# Altium schematic symbol library ic_mcu.SchLib: 6 symbols
Pins are listed as number, name and electrical type; pins without a type are passive.

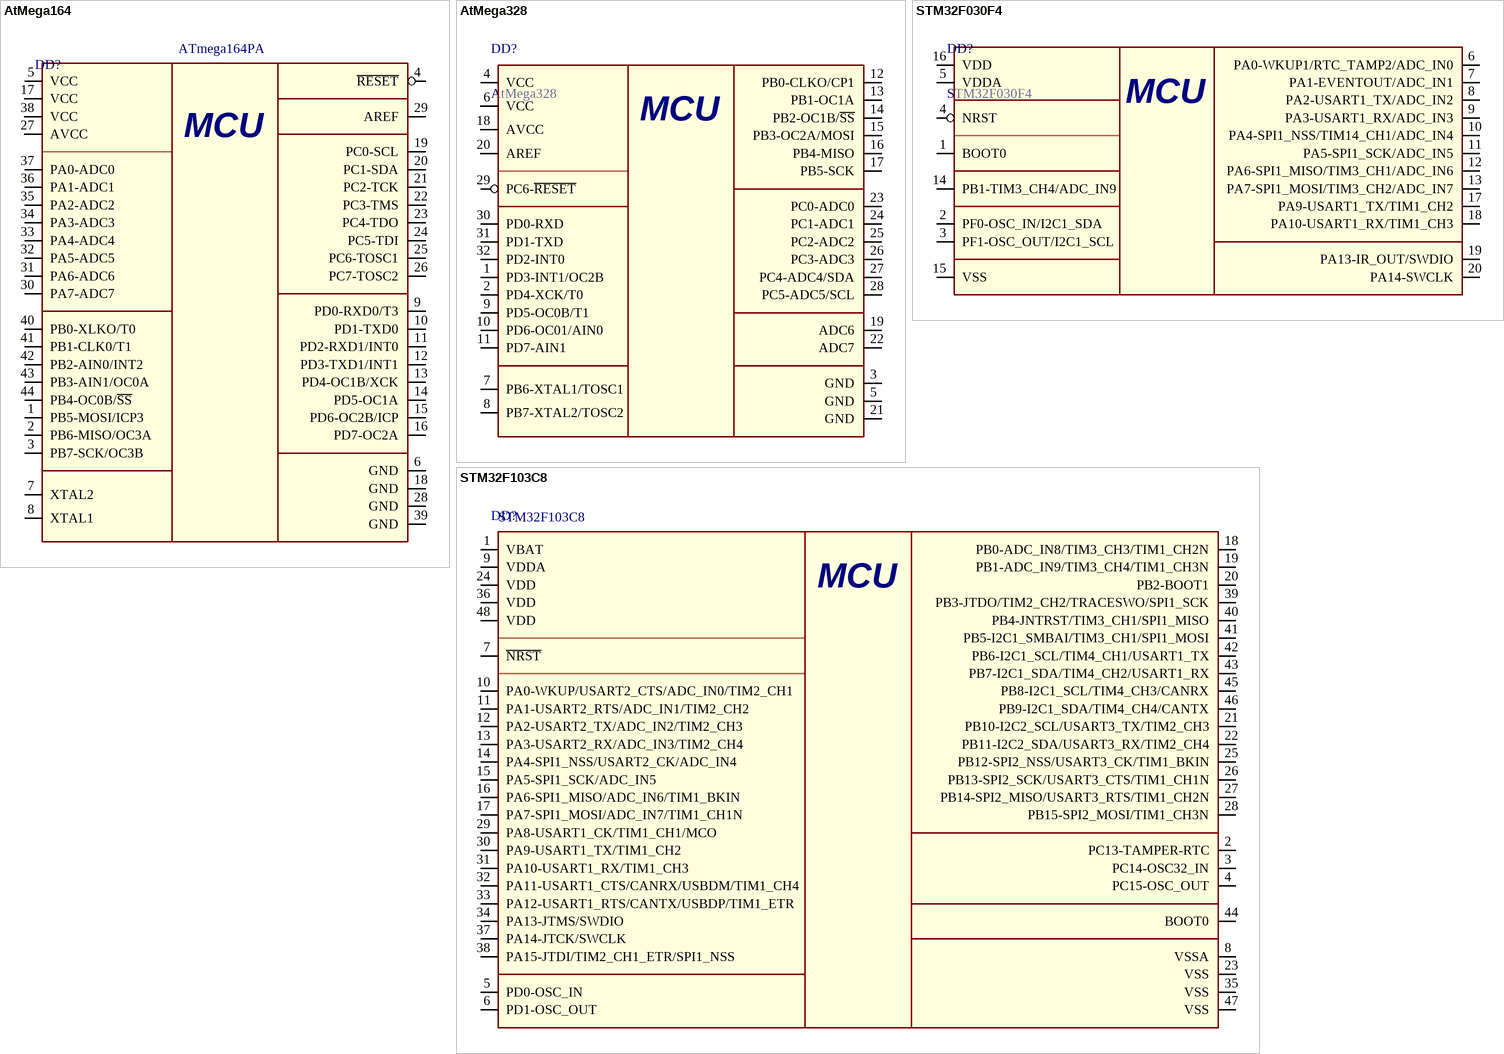
[diagram p0: symbols AtMega164 to STM32F103C8]

## AtMega164
designator DD?, comment ATmega164PA
AVR 8-bit 20MHz 16KB; Manufacturer: Microchip; ManufacturerPartNumber: ATmega164PA-AU; Power/Voltage: 5V; Type: ic-mcu; RevisionDate: 20-11-2018; Package: TQFP-44; Name: ATmega164PA
footprint TQFP-44/100100-0.8 (TQFP, 44-Leads, Body 10,50x10,50mm, Pitch 0,80mm, IPC Medium Density)
pins: 1 PB5-MOSI/ICP3, 2 PB6-MISO/OC3A, 3 PB7-SCK/OC3B, 4 ~{RESET}, 5 VCC, 6 GND, 7 XTAL2, 8 XTAL1, 9 PD0-RXD0/T3, 10 PD1-TXD0, 11 PD2-RXD1/INT0, 12 PD3-TXD1/INT1, 13 PD4-OC1B/XCK, 14 PD5-OC1A, 15 PD6-OC2B/ICP, 16 PD7-OC2A, 17 VCC, 18 GND, 19 PC0-SCL, 20 PC1-SDA, 21 PC2-TCK, 22 PC3-TMS, 23 PC4-TDO, 24 PC5-TDI, 25 PC6-TOSC1, 26 PC7-TOSC2, 27 AVCC, 28 GND, 29 AREF, 30 PA7-ADC7, 31 PA6-ADC6, 32 PA5-ADC5, 33 PA4-ADC4, 34 PA3-ADC3, 35 PA2-ADC2, 36 PA1-ADC1, 37 PA0-ADC0, 38 VCC, 39 GND, 40 PB0-XLKO/T0, 41 PB1-CLK0/T1, 42 PB2-AIN0/INT2, 43 PB3-AIN1/OC0A, 44 PB4-OC0B/~{SS}
text: MCU

## AtMega328
designator DD?
AVR 8-bit 16MHz 32KB; ManufacturerPartNumber: ATMEGA328P-AU; Manufacturer: Microchip; Power/Voltage: 5V; Type: ic-mcu; RevisionDate: 20-11-2018; Package: TQFP-32; Name: AtMega328
footprint TQFP-32/7070-0.8 (TQFP, 32-Leads, Body 7,00x7,00mm, Pitch 0,80mm, IPC Medium Density)
pins: 1 PD3-INT1/OC2B, 2 PD4-XCK/T0, 3 GND, 4 VCC, 5 GND, 6 VCC, 7 PB6-XTAL1/TOSC1, 8 PB7-XTAL2/TOSC2, 9 PD5-OC0B/T1, 10 PD6-OC01/AIN0, 11 PD7-AIN1, 12 PB0-CLKO/CP1, 13 PB1-OC1A, 14 PB2-OC1B/~{SS}, 15 PB3-OC2A/MOSI, 16 PB4-MISO, 17 PB5-SCK, 18 AVCC, 19 ADC6, 20 AREF, 21 GND, 22 ADC7, 23 PC0-ADC0, 24 PC1-ADC1, 25 PC2-ADC2, 26 PC3-ADC3, 27 PC4-ADC4/SDA, 28 PC5-ADC5/SCL, 29 PC6-~{RESET}, 30 PD0-RXD, 31 PD1-TXD, 32 PD2-INT0
text: MCU

## STM32F030F4
designator DD?
Cortex-M0 48MHz 32KB; Manufacturer: STMicroelectronics; ManufacturerPartNumber: STM32F030F4P6; Power/Voltage: 3V; Type: ic-mcu; RevisionDate: 20-11-2018; Package: TSSOP-20; Name: STM32F030F4
footprint SSOP-20 (SOP, 20-Leads, Body 7,20x5,30mm, Pitch 0,65mm, IPC Medium Density)
pins: 1 BOOT0, 2 PF0-OSC_IN/I2C1_SDA, 3 PF1-OSC_OUT/I2C1_SCL, 4 NRST, 5 VDDA, 6 PA0-WKUP1/RTC_TAMP2/ADC_IN0, 7 PA1-EVENTOUT/ADC_IN1, 8 PA2-USART1_TX/ADC_IN2, 9 PA3-USART1_RX/ADC_IN3, 10 PA4-SPI1_NSS/TIM14_CH1/ADC_IN4, 11 PA5-SPI1_SCK/ADC_IN5, 12 PA6-SPI1_MISO/TIM3_CH1/ADC_IN6, 13 PA7-SPI1_MOSI/TIM3_CH2/ADC_IN7, 14 PB1-TIM3_CH4/ADC_IN9, 15 VSS, 16 VDD, 17 PA9-USART1_TX/TIM1_CH2, 18 PA10-USART1_RX/TIM1_CH3, 19 PA13-IR_OUT/SWDIO, 20 PA14-SWCLK
text: MCU

## STM32F103C8
designator DD?
Cortex-M3 72MHz 128KB low-power; Manufacturer: STMicroelectronics; ManufacturerPartNumber: STM32F103C8T6; Power/Voltage: 3V; Type: ic-mcu; RevisionDate: 20-11-2018; Package: TQFP-48; Name: STM32F103C8
footprint TQFP-48/7070-0.5 (TSQFP, 48-Leads, Body 7,00x7,00mm, Pitch 0,50mm, IPC High Density)
pins: 1 VBAT, 2 PC13-TAMPER-RTC, 3 PC14-OSC32_IN, 4 PC15-OSC_OUT, 5 PD0-OSC_IN, 6 PD1-OSC_OUT, 7 ~{NRST}, 8 VSSA, 9 VDDA, 10 PA0-WKUP/USART2_CTS/ADC_IN0/TIM2_CH1, 11 PA1-USART2_RTS/ADC_IN1/TIM2_CH2, 12 PA2-USART2_TX/ADC_IN2/TIM2_CH3, 13 PA3-USART2_RX/ADC_IN3/TIM2_CH4, 14 PA4-SPI1_NSS/USART2_CK/ADC_IN4, 15 PA5-SPI1_SCK/ADC_IN5, 16 PA6-SPI1_MISO/ADC_IN6/TIM1_BKIN, 17 PA7-SPI1_MOSI/ADC_IN7/TIM1_CH1N, 18 PB0-ADC_IN8/TIM3_CH3/TIM1_CH2N, 19 PB1-ADC_IN9/TIM3_CH4/TIM1_CH3N, 20 PB2-BOOT1, 21 PB10-I2C2_SCL/USART3_TX/TIM2_CH3, 22 PB11-I2C2_SDA/USART3_RX/TIM2_CH4, 23 VSS, 24 VDD, 25 PB12-SPI2_NSS/USART3_CK/TIM1_BKIN, 26 PB13-SPI2_SCK/USART3_CTS/TIM1_CH1N, 27 PB14-SPI2_MISO/USART3_RTS/TIM1_CH2N, 28 PB15-SPI2_MOSI/TIM1_CH3N, 29 PA8-USART1_CK/TIM1_CH1/MCO, 30 PA9-USART1_TX/TIM1_CH2, 31 PA10-USART1_RX/TIM1_CH3, 32 PA11-USART1_CTS/CANRX/USBDM/TIM1_CH4, 33 PA12-USART1_RTS/CANTX/USBDP/TIM1_ETR, 34 PA13-JTMS/SWDIO, 35 VSS, 36 VDD, 37 PA14-JTCK/SWCLK, 38 PA15-JTDI/TIM2_CH1_ETR/SPI1_NSS, 39 PB3-JTDO/TIM2_CH2/TRACESWO/SPI1_SCK, 40 PB4-JNTRST/TIM3_CH1/SPI1_MISO, 41 PB5-I2C1_SMBAI/TIM3_CH1/SPI1_MOSI, 42 PB6-I2C1_SCL/TIM4_CH1/USART1_TX, 43 PB7-I2C1_SDA/TIM4_CH2/USART1_RX, 44 BOOT0, 45 PB8-I2C1_SCL/TIM4_CH3/CANRX, 46 PB9-I2C1_SDA/TIM4_CH4/CANTX, 47 VSS, 48 VDD
text: MCU

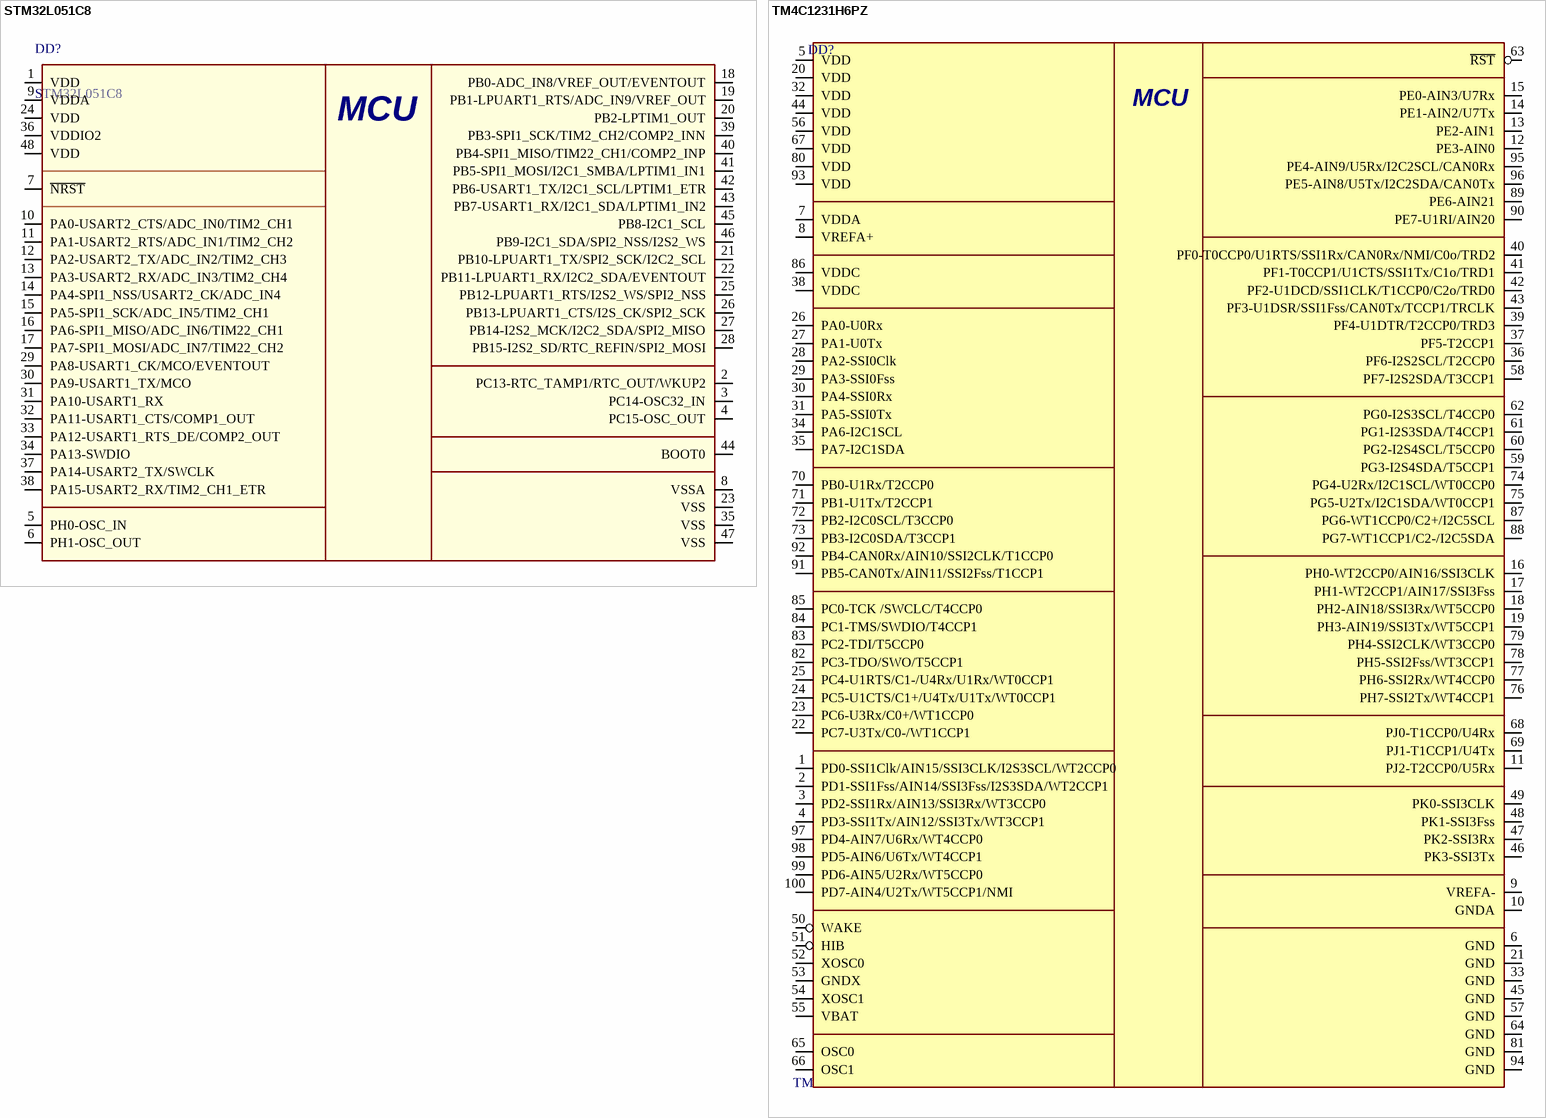
[diagram p1: symbols STM32L051C8 to TM4C1231H6PZ]

## STM32L051C8
designator DD?
Cortex-M0 32MHz 64KB low-power; Manufacturer: STMicroelectronics; ManufacturerPartNumber: STM32L051C8T6; Power/Voltage: 3V; Type: ic-mcu; RevisionDate: 20-11-2018; Package: TQFP-48; Name: STM32L051C8
footprint TQFP-48/7070-0.5 (TSQFP, 48-Leads, Body 7,00x7,00mm, Pitch 0,50mm, IPC High Density)
pins: 1 VDD, 2 PC13-RTC_TAMP1/RTC_OUT/WKUP2, 3 PC14-OSC32_IN, 4 PC15-OSC_OUT, 5 PH0-OSC_IN, 6 PH1-OSC_OUT, 7 ~{NRST}, 8 VSSA, 9 VDDA, 10 PA0-USART2_CTS/ADC_IN0/TIM2_CH1, 11 PA1-USART2_RTS/ADC_IN1/TIM2_CH2, 12 PA2-USART2_TX/ADC_IN2/TIM2_CH3, 13 PA3-USART2_RX/ADC_IN3/TIM2_CH4, 14 PA4-SPI1_NSS/USART2_CK/ADC_IN4, 15 PA5-SPI1_SCK/ADC_IN5/TIM2_CH1, 16 PA6-SPI1_MISO/ADC_IN6/TIM22_CH1, 17 PA7-SPI1_MOSI/ADC_IN7/TIM22_CH2, 18 PB0-ADC_IN8/VREF_OUT/EVENTOUT, 19 PB1-LPUART1_RTS/ADC_IN9/VREF_OUT, 20 PB2-LPTIM1_OUT, 21 PB10-LPUART1_TX/SPI2_SCK/I2C2_SCL, 22 PB11-LPUART1_RX/I2C2_SDA/EVENTOUT, 23 VSS, 24 VDD, 25 PB12-LPUART1_RTS/I2S2_WS/SPI2_NSS, 26 PB13-LPUART1_CTS/I2S_CK/SPI2_SCK, 27 PB14-I2S2_MCK/I2C2_SDA/SPI2_MISO, 28 PB15-I2S2_SD/RTC_REFIN/SPI2_MOSI, 29 PA8-USART1_CK/MCO/EVENTOUT, 30 PA9-USART1_TX/MCO, 31 PA10-USART1_RX, 32 PA11-USART1_CTS/COMP1_OUT, 33 PA12-USART1_RTS_DE/COMP2_OUT, 34 PA13-SWDIO, 35 VSS, 36 VDDIO2, 37 PA14-USART2_TX/SWCLK, 38 PA15-USART2_RX/TIM2_CH1_ETR, 39 PB3-SPI1_SCK/TIM2_CH2/COMP2_INN, 40 PB4-SPI1_MISO/TIM22_CH1/COMP2_INP, 41 PB5-SPI1_MOSI/I2C1_SMBA/LPTIM1_IN1, 42 PB6-USART1_TX/I2C1_SCL/LPTIM1_ETR, 43 PB7-USART1_RX/I2C1_SDA/LPTIM1_IN2, 44 BOOT0, 45 PB8-I2C1_SCL, 46 PB9-I2C1_SDA/SPI2_NSS/I2S2_WS, 47 VSS, 48 VDD
text: MCU

## TM4C1231H6PZ
designator DD?  Name: TM4C1231H6  (hidden comment: TM4C1231H6PZ)
Cortex-M4 80MHz 256+32KB; Manufacturer: Texas Instruments; Power/Voltage: 3V; ManufacturerPartNumber: TM4C1231H6PZ; Type: ic-mcu; RevisionDate: 20-11-2018; Package: TQFP-100
footprint TQFP-100/140140-0.5 (TSQFP, 100-Leads, Body 14,00x14,00mm, Pitch 0,50mm, IPC High Density)
pins: 1 PD0-SSI1Clk/AIN15/SSI3CLK/I2S3SCL/WT2CCP0, 2 PD1-SSI1Fss/AIN14/SSI3Fss/I2S3SDA/WT2CCP1, 3 PD2-SSI1Rx/AIN13/SSI3Rx/WT3CCP0, 4 PD3-SSI1Tx/AIN12/SSI3Tx/WT3CCP1, 5 VDD, 6 GND, 7 VDDA, 8 VREFA+, 9 VREFA-, 10 GNDA, 11 PJ2-T2CCP0/U5Rx, 12 PE3-AIN0, 13 PE2-AIN1, 14 PE1-AIN2/U7Tx, 15 PE0-AIN3/U7Rx, 16 PH0-WT2CCP0/AIN16/SSI3CLK, 17 PH1-WT2CCP1/AIN17/SSI3Fss, 18 PH2-AIN18/SSI3Rx/WT5CCP0, 19 PH3-AIN19/SSI3Tx/WT5CCP1, 20 VDD, 21 GND, 22 PC7-U3Tx/C0-/WT1CCP1, 23 PC6-U3Rx/C0+/WT1CCP0, 24 PC5-U1CTS/C1+/U4Tx/U1Tx/WT0CCP1, 25 PC4-U1RTS/C1-/U4Rx/U1Rx/WT0CCP1, 26 PA0-U0Rx, 27 PA1-U0Tx, 28 PA2-SSI0Clk, 29 PA3-SSI0Fss, 30 PA4-SSI0Rx, 31 PA5-SSI0Tx, 32 VDD, 33 GND, 34 PA6-I2C1SCL, 35 PA7-I2C1SDA, 36 PF6-I2S2SCL/T2CCP0, 37 PF5-T2CCP1, 38 VDDC, 39 PF4-U1DTR/T2CCP0/TRD3, 40 PF0-T0CCP0/U1RTS/SSI1Rx/CAN0Rx/NMI/C0o/TRD2, 41 PF1-T0CCP1/U1CTS/SSI1Tx/C1o/TRD1, 42 PF2-U1DCD/SSI1CLK/T1CCP0/C2o/TRD0, 43 PF3-U1DSR/SSI1Fss/CAN0Tx/TCCP1/TRCLK, 44 VDD, 45 GND, 46 PK3-SSI3Tx, 47 PK2-SSI3Rx, 48 PK1-SSI3Fss, 49 PK0-SSI3CLK, 50 WAKE, 51 HIB, 52 XOSC0, 53 GNDX, 54 XOSC1, 55 VBAT, 56 VDD, 57 GND, 58 PF7-I2S2SDA/T3CCP1, 59 PG3-I2S4SDA/T5CCP1, 60 PG2-I2S4SCL/T5CCP0, 61 PG1-I2S3SDA/T4CCP1, 62 PG0-I2S3SCL/T4CCP0, 63 ~{RST}, 64 GND, 65 OSC0, 66 OSC1, 67 VDD, 68 PJ0-T1CCP0/U4Rx, 69 PJ1-T1CCP1/U4Tx, 70 PB0-U1Rx/T2CCP0, 71 PB1-U1Tx/T2CCP1, 72 PB2-I2C0SCL/T3CCP0, 73 PB3-I2C0SDA/T3CCP1, 74 PG4-U2Rx/I2C1SCL/WT0CCP0, 75 PG5-U2Tx/I2C1SDA/WT0CCP1, 76 PH7-SSI2Tx/WT4CCP1, 77 PH6-SSI2Rx/WT4CCP0, 78 PH5-SSI2Fss/WT3CCP1, 79 PH4-SSI2CLK/WT3CCP0, 80 VDD, 81 GND, 82 PC3-TDO/SWO/T5CCP1, 83 PC2-TDI/T5CCP0, 84 PC1-TMS/SWDIO/T4CCP1, 85 PC0-TCK /SWCLC/T4CCP0, 86 VDDC, 87 PG6-WT1CCP0/C2+/I2C5SCL, 88 PG7-WT1CCP1/C2-/I2C5SDA, 89 PE6-AIN21, 90 PE7-U1RI/AIN20, 91 PB5-CAN0Tx/AIN11/SSI2Fss/T1CCP1, 92 PB4-CAN0Rx/AIN10/SSI2CLK/T1CCP0, 93 VDD, 94 GND, 95 PE4-AIN9/U5Rx/I2C2SCL/CAN0Rx, 96 PE5-AIN8/U5Tx/I2C2SDA/CAN0Tx, 97 PD4-AIN7/U6Rx/WT4CCP0, 98 PD5-AIN6/U6Tx/WT4CCP1, 99 PD6-AIN5/U2Rx/WT5CCP0, 100 PD7-AIN4/U2Tx/WT5CCP1/NMI
text: MCU